# Altium integrated library WE-PD_rev15b.intlib: 278 symbols (part 2 of 3)
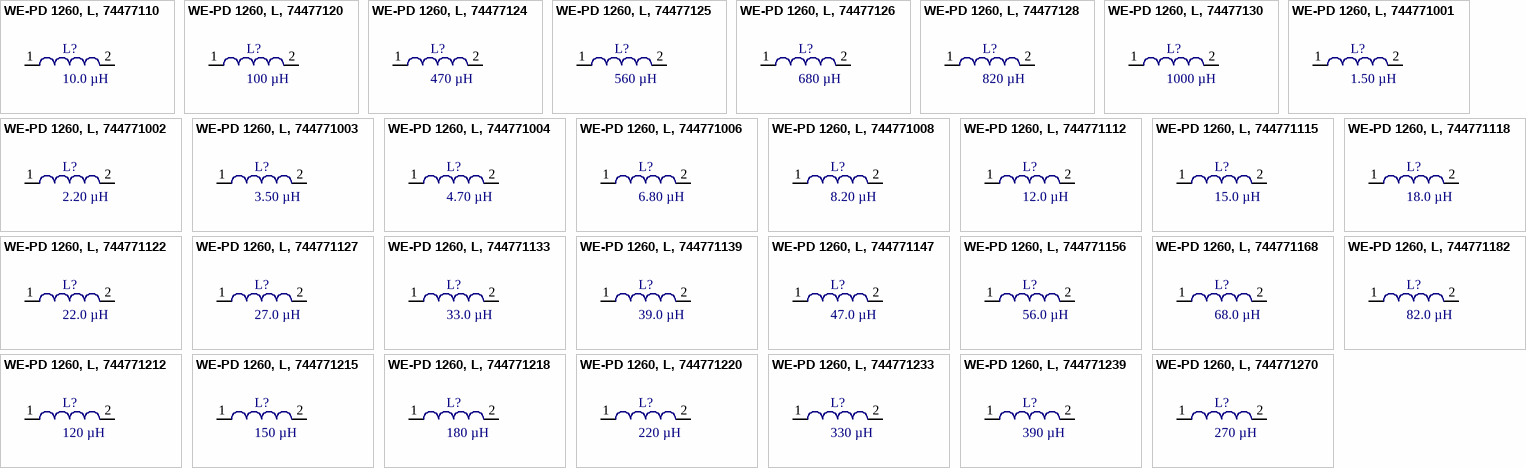
[diagram p12: symbols WE-PD 1260, L, 74477110 to WE-PD 1260, L, 744771270]

## WE-PD 1260, L, 744771127
designator L?, comment 27.0 µH
SMD-Shielded Power Inductor WE-PD, L=27.0 µH; partNo: 744771127; Manufacturer: Würth Elektronik eiSos GmbH; Inductance: 27.0 µH; ComponentLink1Description: Manufacturer; ComponentLink1URL: http://www.we-online.de; Created by: Christin Zierenner; Created Date: August 2009; ComponentLink2Description: Datasheet; ComponentLink2URL: http://www.we-online.de/katalog/media/pdf/744771127.pdf
footprint WE-PD 1260 (SMD Inductor, 2-Leads, Body 12,0x12,0mm)
pins: 1, 2

## WE-PD 1260, L, 744771133
designator L?, comment 33.0 µH
SMD-Shielded Power Inductor WE-PD, L=33.0 µH; partNo: 744771133; Manufacturer: Würth Elektronik eiSos GmbH; Inductance: 33.0 µH; ComponentLink1Description: Manufacturer; ComponentLink1URL: http://www.we-online.de; Created by: Christin Zierenner; Created Date: August 2009; ComponentLink2Description: Datasheet; ComponentLink2URL: http://www.we-online.de/katalog/media/pdf/744771133.pdf
footprint WE-PD 1260 (SMD Inductor, 2-Leads, Body 12,0x12,0mm)
pins: 1, 2

## WE-PD 1260, L, 744771139
designator L?, comment 39.0 µH
SMD-Shielded Power Inductor WE-PD, L=39.0 µH; partNo: 744771139; Manufacturer: Würth Elektronik eiSos GmbH; Inductance: 39.0 µH; ComponentLink1Description: Manufacturer; ComponentLink1URL: http://www.we-online.de; Created by: Christin Zierenner; Created Date: August 2009; ComponentLink2Description: Datasheet; ComponentLink2URL: http://www.we-online.de/katalog/media/pdf/744771139.pdf
footprint WE-PD 1260 (SMD Inductor, 2-Leads, Body 12,0x12,0mm)
pins: 1, 2

## WE-PD 1260, L, 744771147
designator L?, comment 47.0 µH
SMD-Shielded Power Inductor WE-PD, L=47.0 µH; partNo: 744771147; Manufacturer: Würth Elektronik eiSos GmbH; Inductance: 47.0 µH; ComponentLink1Description: Manufacturer; ComponentLink1URL: http://www.we-online.de; Created by: Christin Zierenner; Created Date: August 2009; ComponentLink2Description: Datasheet; ComponentLink2URL: http://www.we-online.de/katalog/media/pdf/744771147.pdf
footprint WE-PD 1260 (SMD Inductor, 2-Leads, Body 12,0x12,0mm)
pins: 1, 2

## WE-PD 1260, L, 744771156
designator L?, comment 56.0 µH
SMD-Shielded Power Inductor WE-PD, L=56.0 µH; partNo: 744771156; Manufacturer: Würth Elektronik eiSos GmbH; Inductance: 56.0 µH; ComponentLink1Description: Manufacturer; ComponentLink1URL: http://www.we-online.de; Created by: Christin Zierenner; Created Date: August 2009; ComponentLink2Description: Datasheet; ComponentLink2URL: http://www.we-online.de/katalog/media/pdf/744771156.pdf
footprint WE-PD 1260 (SMD Inductor, 2-Leads, Body 12,0x12,0mm)
pins: 1, 2

## WE-PD 1260, L, 744771168
designator L?, comment 68.0 µH
SMD-Shielded Power Inductor WE-PD, L=68.0 µH; partNo: 744771168; Manufacturer: Würth Elektronik eiSos GmbH; Inductance: 68.0 µH; ComponentLink1Description: Manufacturer; ComponentLink1URL: http://www.we-online.de; Created by: Christin Zierenner; Created Date: August 2009; ComponentLink2Description: Datasheet; ComponentLink2URL: http://www.we-online.de/katalog/media/pdf/744771168.pdf
footprint WE-PD 1260 (SMD Inductor, 2-Leads, Body 12,0x12,0mm)
pins: 1, 2

## WE-PD 1260, L, 744771182
designator L?, comment 82.0 µH
SMD-Shielded Power Inductor WE-PD, L=82.0 µH; partNo: 744771182; Manufacturer: Würth Elektronik eiSos GmbH; Inductance: 82.0 µH; ComponentLink1Description: Manufacturer; ComponentLink1URL: http://www.we-online.de; Created by: Christin Zierenner; Created Date: August 2009; ComponentLink2Description: Datasheet; ComponentLink2URL: http://www.we-online.de/katalog/media/pdf/744771182.pdf
footprint WE-PD 1260 (SMD Inductor, 2-Leads, Body 12,0x12,0mm)
pins: 1, 2

## WE-PD 1260, L, 744771212
designator L?, comment 120 µH
SMD-Shielded Power Inductor WE-PD, L=120 µH; partNo: 744771212; Manufacturer: Würth Elektronik eiSos GmbH; Inductance: 120 µH; ComponentLink1Description: Manufacturer; ComponentLink1URL: http://www.we-online.de; Created by: Christin Zierenner; Created Date: August 2009; ComponentLink2Description: Datasheet; ComponentLink2URL: http://www.we-online.de/katalog/media/pdf/744771212.pdf
footprint WE-PD 1260 (SMD Inductor, 2-Leads, Body 12,0x12,0mm)
pins: 1, 2

## WE-PD 1260, L, 744771215
designator L?, comment 150 µH
SMD-Shielded Power Inductor WE-PD, L=150 µH; partNo: 744771215; Manufacturer: Würth Elektronik eiSos GmbH; Inductance: 150 µH; ComponentLink1Description: Manufacturer; ComponentLink1URL: http://www.we-online.de; Created by: Christin Zierenner; Created Date: August 2009; ComponentLink2Description: Datasheet; ComponentLink2URL: http://www.we-online.de/katalog/media/pdf/744771215.pdf
footprint WE-PD 1260 (SMD Inductor, 2-Leads, Body 12,0x12,0mm)
pins: 1, 2

## WE-PD 1260, L, 744771218
designator L?, comment 180 µH
SMD-Shielded Power Inductor WE-PD, L=1820 µH; partNo: 744771218; Manufacturer: Würth Elektronik eiSos GmbH; Inductance: 180 µH; ComponentLink1Description: Manufacturer; ComponentLink1URL: http://www.we-online.de; Created by: Christin Zierenner; Created Date: August 2009; ComponentLink2Description: Datasheet; ComponentLink2URL: http://www.we-online.de/katalog/media/pdf/744771218.pdf
footprint WE-PD 1260 (SMD Inductor, 2-Leads, Body 12,0x12,0mm)
pins: 1, 2

## WE-PD 1260, L, 744771220
designator L?, comment 220 µH
SMD-Shielded Power Inductor WE-PD, L=220 µH; partNo: 744771220; Manufacturer: Würth Elektronik eiSos GmbH; Inductance: 220 µH; ComponentLink1Description: Manufacturer; ComponentLink1URL: http://www.we-online.de; Created by: Christin Zierenner; Created Date: August 2009; ComponentLink2Description: Datasheet; ComponentLink2URL: http://www.we-online.de/katalog/media/pdf/744771220.pdf
footprint WE-PD 1260 (SMD Inductor, 2-Leads, Body 12,0x12,0mm)
pins: 1, 2

## WE-PD 1260, L, 744771233
designator L?, comment 330 µH
SMD-Shielded Power Inductor WE-PD, L=330 µH; partNo: 744771233; Manufacturer: Würth Elektronik eiSos GmbH; Inductance: 330 µH; ComponentLink1Description: Manufacturer; ComponentLink1URL: http://www.we-online.de; Created by: Christin Zierenner; Created Date: August 2009; ComponentLink2Description: Datasheet; ComponentLink2URL: http://www.we-online.de/katalog/media/pdf/744771233.pdf
footprint WE-PD 1260 (SMD Inductor, 2-Leads, Body 12,0x12,0mm)
pins: 1, 2

## WE-PD 1260, L, 744771239
designator L?, comment 390 µH
SMD-Shielded Power Inductor WE-PD, L=390 µH; partNo: 744771239; Manufacturer: Würth Elektronik eiSos GmbH; Inductance: 390 µH; ComponentLink1Description: Manufacturer; ComponentLink1URL: http://www.we-online.de; Created by: Christin Zierenner; Created Date: August 2009; ComponentLink2Description: Datasheet; ComponentLink2URL: http://www.we-online.de/katalog/media/pdf/744771239.pdf
footprint WE-PD 1260 (SMD Inductor, 2-Leads, Body 12,0x12,0mm)
pins: 1, 2

## WE-PD 1260, L, 744771270
designator L?, comment 270 µH
SMD-Shielded Power Inductor WE-PD, L=270 µH; partNo: 744771270; Manufacturer: Würth Elektronik eiSos GmbH; Inductance: 270 µH; ComponentLink1Description: Manufacturer; ComponentLink1URL: http://www.we-online.de; Created by: Christin Zierenner; Created Date: August 2009; ComponentLink2Description: Datasheet; ComponentLink2URL: http://www.we-online.de/katalog/media/pdf/744771270.pdf
footprint WE-PD 1260 (SMD Inductor, 2-Leads, Body 12,0x12,0mm)
pins: 1, 2


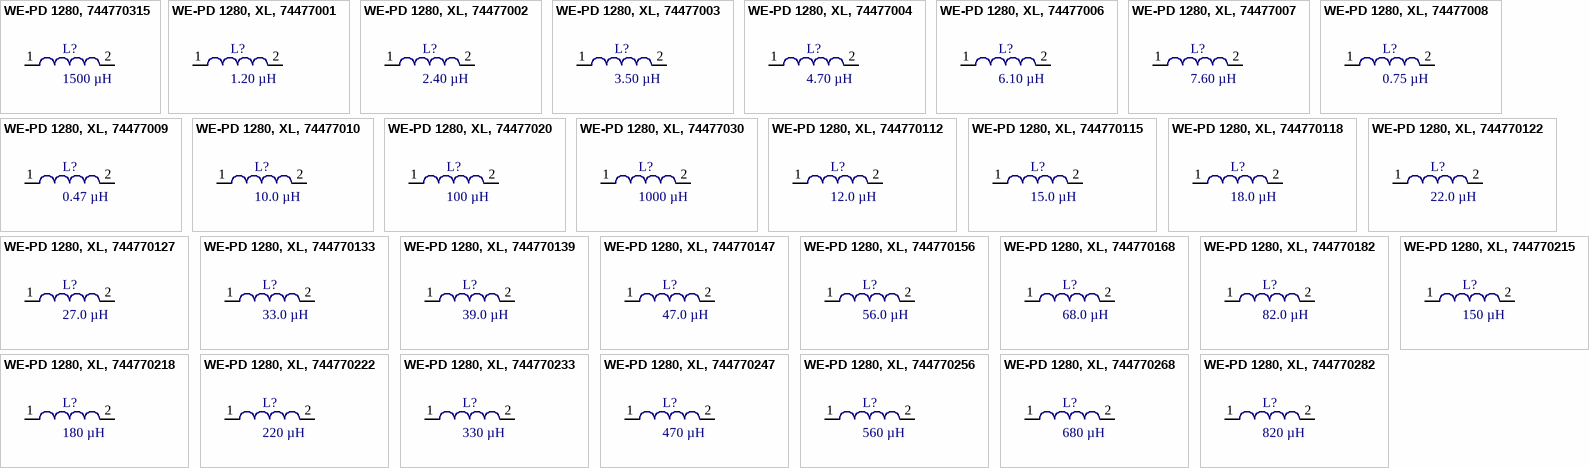
[diagram p5: symbols WE-PD 1280, 744770315 to WE-PD 1280, XL, 744770282]

## WE-PD 1280, 744770315
designator L?, comment 1500 µH
SMD-Shielded Power Inductor WE-PD, L=1500 µH; partNo: 744770315; Manufacturer: Würth Elektronik eiSos GmbH; Inductance: 1500 µH; ComponentLink1Description: Manufacturer; ComponentLink1URL: http://www.we-online.de; Created by: Christin Otto; Created Date: August 2013; ComponentLink2Description: Datasheet; ComponentLink2URL: http://www.we-online.de/katalog/media/pdf/744770315.pdf
footprint WE-PD 1280 (SMD Inductor, 2-Leads, Body 12,0x12,0mm)
pins: 1, 2

## WE-PD 1280, XL, 74477001
designator L?, comment 1.20 µH
SMD-Shielded Power Inductor WE-PD, L=1.20 µH; partNo: 74477001; Manufacturer: Würth Elektronik eiSos GmbH; Inductance: 1.20 µH; ComponentLink1Description: Manufacturer; ComponentLink1URL: http://www.we-online.de; Created by: Christin Zierenner; Created Date: August 2009; ComponentLink2Description: Datasheet; ComponentLink2URL: http://www.we-online.de/katalog/media/pdf/74477001.pdf
footprint WE-PD 1280 (SMD Inductor, 2-Leads, Body 12,0x12,0mm)
pins: 1, 2

## WE-PD 1280, XL, 74477002
designator L?, comment 2.40 µH
SMD-Shielded Power Inductor WE-PD, L=2.40 µH; partNo: 74477002; Manufacturer: Würth Elektronik eiSos GmbH; Inductance: 2.40 µH; ComponentLink1Description: Manufacturer; ComponentLink1URL: http://www.we-online.de; Created by: Christin Zierenner; Created Date: August 2009; ComponentLink2Description: Datasheet; ComponentLink2URL: http://www.we-online.de/katalog/media/pdf/74477002.pdf
footprint WE-PD 1280 (SMD Inductor, 2-Leads, Body 12,0x12,0mm)
pins: 1, 2

## WE-PD 1280, XL, 74477003
designator L?, comment 3.50 µH
SMD-Shielded Power Inductor WE-PD, L=3.50 µH; partNo: 74477003; Manufacturer: Würth Elektronik eiSos GmbH; Inductance: 3.50 µH; ComponentLink1Description: Manufacturer; ComponentLink1URL: http://www.we-online.de; Created by: Christin Zierenner; Created Date: August 2009; ComponentLink2Description: Datasheet; ComponentLink2URL: http://www.we-online.de/katalog/media/pdf/74477003.pdf
footprint WE-PD 1280 (SMD Inductor, 2-Leads, Body 12,0x12,0mm)
pins: 1, 2

## WE-PD 1280, XL, 74477004
designator L?, comment 4.70 µH
SMD-Shielded Power Inductor WE-PD, L=4.70 µH; partNo: 74477004; Manufacturer: Würth Elektronik eiSos GmbH; Inductance: 4.70 µH; ComponentLink1Description: Manufacturer; ComponentLink1URL: http://www.we-online.de; Created by: Christin Zierenner; Created Date: August 2009; ComponentLink2Description: Datasheet; ComponentLink2URL: http://www.we-online.de/katalog/media/pdf/74477004.pdf
footprint WE-PD 1280 (SMD Inductor, 2-Leads, Body 12,0x12,0mm)
pins: 1, 2

## WE-PD 1280, XL, 74477006
designator L?, comment 6.10 µH
SMD-Shielded Power Inductor WE-PD, L=6.10 µH; partNo: 74477006; Manufacturer: Würth Elektronik eiSos GmbH; Inductance: 6.10 µH; ComponentLink1Description: Manufacturer; ComponentLink1URL: http://www.we-online.de; Created by: Christin Zierenner; Created Date: August 2009; ComponentLink2Description: Datasheet; ComponentLink2URL: http://www.we-online.de/katalog/media/pdf/74477006.pdf
footprint WE-PD 1280 (SMD Inductor, 2-Leads, Body 12,0x12,0mm)
pins: 1, 2

## WE-PD 1280, XL, 74477007
designator L?, comment 7.60 µH
SMD-Shielded Power Inductor WE-PD, L=7.60 µH; partNo: 74477007; Manufacturer: Würth Elektronik eiSos GmbH; Inductance: 7.60 µH; ComponentLink1Description: Manufacturer; ComponentLink1URL: http://www.we-online.de; Created by: Christin Zierenner; Created Date: August 2009; ComponentLink2Description: Datasheet; ComponentLink2URL: http://www.we-online.de/katalog/media/pdf/74477007.pdf
footprint WE-PD 1280 (SMD Inductor, 2-Leads, Body 12,0x12,0mm)
pins: 1, 2

## WE-PD 1280, XL, 74477008
designator L?, comment 0.75 µH
SMD-Shielded Power Inductor WE-PD, L=0.75 µH; partNo: 74477008; Manufacturer: Würth Elektronik eiSos GmbH; Inductance: 0.75 µH; ComponentLink1Description: Manufacturer; ComponentLink1URL: http://www.we-online.de; Created by: Christin Zierenner; Created Date: August 2009; ComponentLink2Description: Datasheet; ComponentLink2URL: http://www.we-online.de/katalog/media/pdf/74477008.pdf
footprint WE-PD 1280 (SMD Inductor, 2-Leads, Body 12,0x12,0mm)
pins: 1, 2

## WE-PD 1280, XL, 74477009
designator L?, comment 0.47 µH
SMD-Shielded Power Inductor WE-PD, L=0.47 µH; partNo: 74477009; Manufacturer: Würth Elektronik eiSos GmbH; Inductance: 0.47 µH; ComponentLink1Description: Manufacturer; ComponentLink1URL: http://www.we-online.de; Created by: Christin Zierenner; Created Date: August 2009; ComponentLink2Description: Datasheet; ComponentLink2URL: http://www.we-online.de/katalog/media/pdf/74477009.pdf
footprint WE-PD 1280 (SMD Inductor, 2-Leads, Body 12,0x12,0mm)
pins: 1, 2

## WE-PD 1280, XL, 74477010
designator L?, comment 10.0 µH
SMD-Shielded Power Inductor WE-PD, L=10.0 µH; partNo: 74477010; Manufacturer: Würth Elektronik eiSos GmbH; Inductance: 10.0 µH; ComponentLink1Description: Manufacturer; ComponentLink1URL: http://www.we-online.de; Created by: Christin Zierenner; Created Date: August 2009; ComponentLink2Description: Datasheet; ComponentLink2URL: http://www.we-online.de/katalog/media/pdf/74477010.pdf
footprint WE-PD 1280 (SMD Inductor, 2-Leads, Body 12,0x12,0mm)
pins: 1, 2

## WE-PD 1280, XL, 74477020
designator L?, comment 100 µH
SMD-Shielded Power Inductor WE-PD, L=100 µH; partNo: 74477020; Manufacturer: Würth Elektronik eiSos GmbH; Inductance: 100 µH; ComponentLink1Description: Manufacturer; ComponentLink1URL: http://www.we-online.de; Created by: Christin Zierenner; Created Date: August 2009; ComponentLink2Description: Datasheet; ComponentLink2URL: http://www.we-online.de/katalog/media/pdf/74477020.pdf
footprint WE-PD 1280 (SMD Inductor, 2-Leads, Body 12,0x12,0mm)
pins: 1, 2

## WE-PD 1280, XL, 74477030
designator L?, comment 1000 µH
SMD-Shielded Power Inductor WE-PD, L=1000 µH; partNo: 74477030; Manufacturer: Würth Elektronik eiSos GmbH; Inductance: 1000 µH; ComponentLink1Description: Manufacturer; ComponentLink1URL: http://www.we-online.de; Created by: Christin Zierenner; Created Date: August 2009; ComponentLink2Description: Datasheet; ComponentLink2URL: http://www.we-online.de/katalog/media/pdf/74477030.pdf
footprint WE-PD 1280 (SMD Inductor, 2-Leads, Body 12,0x12,0mm)
pins: 1, 2

## WE-PD 1280, XL, 744770112
designator L?, comment 12.0 µH
SMD-Shielded Power Inductor WE-PD, L=12.0 µH; partNo: 744770112; Manufacturer: Würth Elektronik eiSos GmbH; Inductance: 12.0 µH; ComponentLink1Description: Manufacturer; ComponentLink1URL: http://www.we-online.de; Created by: Christin Zierenner; Created Date: August 2009; ComponentLink2Description: Datasheet; ComponentLink2URL: http://www.we-online.de/katalog/media/pdf/744770112.pdf
footprint WE-PD 1280 (SMD Inductor, 2-Leads, Body 12,0x12,0mm)
pins: 1, 2

## WE-PD 1280, XL, 744770115
designator L?, comment 15.0 µH
SMD-Shielded Power Inductor WE-PD, L=15.0 µH; partNo: 744770115; Manufacturer: Würth Elektronik eiSos GmbH; Inductance: 15.0 µH; ComponentLink1Description: Manufacturer; ComponentLink1URL: http://www.we-online.de; Created by: Christin Zierenner; Created Date: August 2009; ComponentLink2Description: Datasheet; ComponentLink2URL: http://www.we-online.de/katalog/media/pdf/744770115.pdf
footprint WE-PD 1280 (SMD Inductor, 2-Leads, Body 12,0x12,0mm)
pins: 1, 2

## WE-PD 1280, XL, 744770118
designator L?, comment 18.0 µH
SMD-Shielded Power Inductor WE-PD, L=18.0 µH; partNo: 744770118; Manufacturer: Würth Elektronik eiSos GmbH; Inductance: 18.0 µH; ComponentLink1Description: Manufacturer; ComponentLink1URL: http://www.we-online.de; Created by: Christin Zierenner; Created Date: August 2009; ComponentLink2Description: Datasheet; ComponentLink2URL: http://www.we-online.de/katalog/media/pdf/744770118.pdf
footprint WE-PD 1280 (SMD Inductor, 2-Leads, Body 12,0x12,0mm)
pins: 1, 2

## WE-PD 1280, XL, 744770122
designator L?, comment 22.0 µH
SMD-Shielded Power Inductor WE-PD, L=22.0 µH; partNo: 744770122; Manufacturer: Würth Elektronik eiSos GmbH; Inductance: 22.0 µH; ComponentLink1Description: Manufacturer; ComponentLink1URL: http://www.we-online.de; Created by: Christin Zierenner; Created Date: August 2009; ComponentLink2Description: Datasheet; ComponentLink2URL: http://www.we-online.de/katalog/media/pdf/744770122.pdf
footprint WE-PD 1280 (SMD Inductor, 2-Leads, Body 12,0x12,0mm)
pins: 1, 2

## WE-PD 1280, XL, 744770127
designator L?, comment 27.0 µH
SMD-Shielded Power Inductor WE-PD, L=27.0 µH; partNo: 744770127; Manufacturer: Würth Elektronik eiSos GmbH; Inductance: 27.0 µH; ComponentLink1Description: Manufacturer; ComponentLink1URL: http://www.we-online.de; Created by: Christin Zierenner; Created Date: August 2009; ComponentLink2Description: Datasheet; ComponentLink2URL: http://www.we-online.de/katalog/media/pdf/744770127.pdf
footprint WE-PD 1280 (SMD Inductor, 2-Leads, Body 12,0x12,0mm)
pins: 1, 2

## WE-PD 1280, XL, 744770133
designator L?, comment 33.0 µH
SMD-Shielded Power Inductor WE-PD, L=33.0 µH; partNo: 744770133; Manufacturer: Würth Elektronik eiSos GmbH; Inductance: 33.0 µH; ComponentLink1Description: Manufacturer; ComponentLink1URL: http://www.we-online.de; Created by: Christin Zierenner; Created Date: August 2009; ComponentLink2Description: Datasheet; ComponentLink2URL: http://www.we-online.de/katalog/media/pdf/744770133.pdf
footprint WE-PD 1280 (SMD Inductor, 2-Leads, Body 12,0x12,0mm)
pins: 1, 2

## WE-PD 1280, XL, 744770139
designator L?, comment 39.0 µH
SMD-Shielded Power Inductor WE-PD, L=39.0 µH; partNo: 744770139; Manufacturer: Würth Elektronik eiSos GmbH; Inductance: 39.0 µH; ComponentLink1Description: Manufacturer; ComponentLink1URL: http://www.we-online.de; Created by: Christin Zierenner; Created Date: August 2009; ComponentLink2Description: Datasheet; ComponentLink2URL: http://www.we-online.de/katalog/media/pdf/744770139.pdf
footprint WE-PD 1280 (SMD Inductor, 2-Leads, Body 12,0x12,0mm)
pins: 1, 2

## WE-PD 1280, XL, 744770147
designator L?, comment 47.0 µH
SMD-Shielded Power Inductor WE-PD, L=47.0 µH; partNo: 744770147; Manufacturer: Würth Elektronik eiSos GmbH; Inductance: 47.0 µH; ComponentLink1Description: Manufacturer; ComponentLink1URL: http://www.we-online.de; Created by: Christin Zierenner; Created Date: August 2009; ComponentLink2Description: Datasheet; ComponentLink2URL: http://www.we-online.de/katalog/media/pdf/744770147.pdf
footprint WE-PD 1280 (SMD Inductor, 2-Leads, Body 12,0x12,0mm)
pins: 1, 2

## WE-PD 1280, XL, 744770156
designator L?, comment 56.0 µH
SMD-Shielded Power Inductor WE-PD, L=56.0 µH; partNo: 744770156; Manufacturer: Würth Elektronik eiSos GmbH; Inductance: 56.0 µH; ComponentLink1Description: Manufacturer; ComponentLink1URL: http://www.we-online.de; Created by: Christin Zierenner; Created Date: August 2009; ComponentLink2Description: Datasheet; ComponentLink2URL: http://www.we-online.de/katalog/media/pdf/744770156.pdf
footprint WE-PD 1280 (SMD Inductor, 2-Leads, Body 12,0x12,0mm)
pins: 1, 2

## WE-PD 1280, XL, 744770168
designator L?, comment 68.0 µH
SMD-Shielded Power Inductor WE-PD, L=68.0 µH; partNo: 744770168; Manufacturer: Würth Elektronik eiSos GmbH; Inductance: 68.0 µH; ComponentLink1Description: Manufacturer; ComponentLink1URL: http://www.we-online.de; Created by: Christin Zierenner; Created Date: August 2009; ComponentLink2Description: Datasheet; ComponentLink2URL: http://www.we-online.de/katalog/media/pdf/744770168.pdf
footprint WE-PD 1280 (SMD Inductor, 2-Leads, Body 12,0x12,0mm)
pins: 1, 2

## WE-PD 1280, XL, 744770182
designator L?, comment 82.0 µH
SMD-Shielded Power Inductor WE-PD, L=82.0 µH; partNo: 744770182; Manufacturer: Würth Elektronik eiSos GmbH; Inductance: 82.0 µH; ComponentLink1Description: Manufacturer; ComponentLink1URL: http://www.we-online.de; Created by: Christin Zierenner; Created Date: August 2009; ComponentLink2Description: Datasheet; ComponentLink2URL: http://www.we-online.de/katalog/media/pdf/744770182.pdf
footprint WE-PD 1280 (SMD Inductor, 2-Leads, Body 12,0x12,0mm)
pins: 1, 2

## WE-PD 1280, XL, 744770215
designator L?, comment 150 µH
SMD-Shielded Power Inductor WE-PD, L=150 µH; partNo: 744770215; Manufacturer: Würth Elektronik eiSos GmbH; Inductance: 150 µH; ComponentLink1Description: Manufacturer; ComponentLink1URL: http://www.we-online.de; Created by: Christin Zierenner; Created Date: August 2009; ComponentLink2Description: Datasheet; ComponentLink2URL: http://www.we-online.de/katalog/media/pdf/744770215.pdf
footprint WE-PD 1280 (SMD Inductor, 2-Leads, Body 12,0x12,0mm)
pins: 1, 2

## WE-PD 1280, XL, 744770218
designator L?, comment 180 µH
SMD-Shielded Power Inductor WE-PD, L=180 µH; partNo: 744770218; Manufacturer: Würth Elektronik eiSos GmbH; Inductance: 180 µH; ComponentLink1Description: Manufacturer; ComponentLink1URL: http://www.we-online.de; Created by: Christin Zierenner; Created Date: August 2009; ComponentLink2Description: Datasheet; ComponentLink2URL: http://www.we-online.de/katalog/media/pdf/744770218.pdf
footprint WE-PD 1280 (SMD Inductor, 2-Leads, Body 12,0x12,0mm)
pins: 1, 2

## WE-PD 1280, XL, 744770222
designator L?, comment 220 µH
SMD-Shielded Power Inductor WE-PD, L=220 µH; partNo: 744770222; Manufacturer: Würth Elektronik eiSos GmbH; Inductance: 220 µH; ComponentLink1Description: Manufacturer; ComponentLink1URL: http://www.we-online.de; Created by: Christin Zierenner; Created Date: August 2009; ComponentLink2Description: Datasheet; ComponentLink2URL: http://www.we-online.de/katalog/media/pdf/744770222.pdf
footprint WE-PD 1280 (SMD Inductor, 2-Leads, Body 12,0x12,0mm)
pins: 1, 2

## WE-PD 1280, XL, 744770233
designator L?, comment 330 µH
SMD-Shielded Power Inductor WE-PD, L=330 µH; partNo: 744770233; Manufacturer: Würth Elektronik eiSos GmbH; Inductance: 330 µH; ComponentLink1Description: Manufacturer; ComponentLink1URL: http://www.we-online.de; Created by: Christin Zierenner; Created Date: August 2009; ComponentLink2Description: Datasheet; ComponentLink2URL: http://www.we-online.de/katalog/media/pdf/744770233.pdf
footprint WE-PD 1280 (SMD Inductor, 2-Leads, Body 12,0x12,0mm)
pins: 1, 2

## WE-PD 1280, XL, 744770247
designator L?, comment 470 µH
SMD-Shielded Power Inductor WE-PD, L=470 µH; partNo: 744770247; Manufacturer: Würth Elektronik eiSos GmbH; Inductance: 470 µH; ComponentLink1Description: Manufacturer; ComponentLink1URL: http://www.we-online.de; Created by: Christin Zierenner; Created Date: August 2009; ComponentLink2Description: Datasheet; ComponentLink2URL: http://www.we-online.de/katalog/media/pdf/744770247.pdf
footprint WE-PD 1280 (SMD Inductor, 2-Leads, Body 12,0x12,0mm)
pins: 1, 2

## WE-PD 1280, XL, 744770256
designator L?, comment 560 µH
SMD-Shielded Power Inductor WE-PD, L=560 µH; partNo: 744770256; Manufacturer: Würth Elektronik eiSos GmbH; Inductance: 560 µH; ComponentLink1Description: Manufacturer; ComponentLink1URL: http://www.we-online.de; Created by: Christin Zierenner; Created Date: August 2009; ComponentLink2Description: Datasheet; ComponentLink2URL: http://www.we-online.de/katalog/media/pdf/744770256.pdf
footprint WE-PD 1280 (SMD Inductor, 2-Leads, Body 12,0x12,0mm)
pins: 1, 2

## WE-PD 1280, XL, 744770268
designator L?, comment 680 µH
SMD-Shielded Power Inductor WE-PD, L=680 µH; partNo: 744770268; Manufacturer: Würth Elektronik eiSos GmbH; Inductance: 680 µH; ComponentLink1Description: Manufacturer; ComponentLink1URL: http://www.we-online.de; Created by: Christin Zierenner; Created Date: August 2009; ComponentLink2Description: Datasheet; ComponentLink2URL: http://www.we-online.de/katalog/media/pdf/744770268.pdf
footprint WE-PD 1280 (SMD Inductor, 2-Leads, Body 12,0x12,0mm)
pins: 1, 2

## WE-PD 1280, XL, 744770282
designator L?, comment 820 µH
SMD-Shielded Power Inductor WE-PD, L=820 µH; partNo: 744770282; Manufacturer: Würth Elektronik eiSos GmbH; Inductance: 820 µH; ComponentLink1Description: Manufacturer; ComponentLink1URL: http://www.we-online.de; Created by: Christin Zierenner; Created Date: August 2009; ComponentLink2Description: Datasheet; ComponentLink2URL: http://www.we-online.de/katalog/media/pdf/744770282.pdf
footprint WE-PD 1280 (SMD Inductor, 2-Leads, Body 12,0x12,0mm)
pins: 1, 2


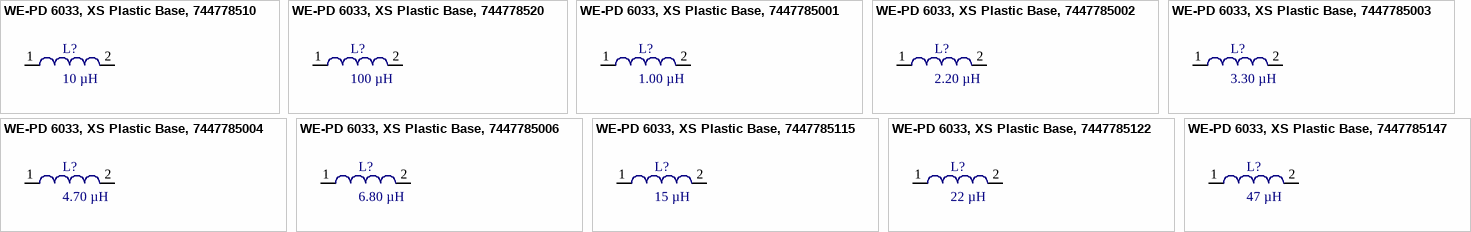
[diagram p6: symbols WE-PD 6033, XS Plastic Base, 744778510 to WE-PD 6033, XS Plastic Base, 7447785147]

## WE-PD 6033, XS Plastic Base, 744778510
designator L?, comment 10 µH
SMD-Shielded Power Inductor WE-PD, L=10 µH; partNo: 744778510; Manufacturer: Würth Elektronik eiSos GmbH; Inductance: 10 µH; ComponentLink1Description: Manufacturer; ComponentLink1URL: http://www.we-online.de; Created by: Christin Zierenner; Created Date: August 2009; ComponentLink2Description: Datasheet; ComponentLink2URL: http://www.we-online.de/katalog/media/pdf/744778510.pdf
footprint WE-PD 6033 Plastic Base (SMD Inductor, 2-Leads, Body 5,9x6,2mm)
pins: 1, 2

## WE-PD 6033, XS Plastic Base, 744778520
designator L?, comment 100 µH
SMD-Shielded Power Inductor WE-PD, L=100 µH; partNo: 744778520; Manufacturer: Würth Elektronik eiSos GmbH; Inductance: 100 µH; ComponentLink1Description: Manufacturer; ComponentLink1URL: http://www.we-online.de; Created by: Christin Zierenner; Created Date: August 2009; ComponentLink2Description: Datasheet; ComponentLink2URL: http://www.we-online.de/katalog/media/pdf/744778520.pdf
footprint WE-PD 6033 Plastic Base (SMD Inductor, 2-Leads, Body 5,9x6,2mm)
pins: 1, 2

## WE-PD 6033, XS Plastic Base, 7447785001
designator L?, comment 1.00 µH
SMD-Shielded Power Inductor WE-PD, L=1.00 µH; partNo: 7447785001; Manufacturer: Würth Elektronik eiSos GmbH; Inductance: 1.00 µH; ComponentLink1Description: Manufacturer; ComponentLink1URL: http://www.we-online.de; Created by: Christin Zierenner; Created Date: August 2009; ComponentLink2Description: Datasheet; ComponentLink2URL: http://www.we-online.de/katalog/media/pdf/7447785001.pdf
footprint WE-PD 6033 Plastic Base (SMD Inductor, 2-Leads, Body 5,9x6,2mm)
pins: 1, 2

## WE-PD 6033, XS Plastic Base, 7447785002
designator L?, comment 2.20 µH
SMD-Shielded Power Inductor WE-PD, L=2.20 µH; partNo: 7447785002; Manufacturer: Würth Elektronik eiSos GmbH; Inductance: 2.20 µH; ComponentLink1Description: Manufacturer; ComponentLink1URL: http://www.we-online.de; Created by: Christin Zierenner; Created Date: August 2009; ComponentLink2Description: Datasheet; ComponentLink2URL: http://www.we-online.de/katalog/media/pdf/7447785002.pdf
footprint WE-PD 6033 Plastic Base (SMD Inductor, 2-Leads, Body 5,9x6,2mm)
pins: 1, 2

## WE-PD 6033, XS Plastic Base, 7447785003
designator L?, comment 3.30 µH
SMD-Shielded Power Inductor WE-PD, L=3.30 µH; partNo: 7447785003; Manufacturer: Würth Elektronik eiSos GmbH; Inductance: 3.30 µH; ComponentLink1Description: Manufacturer; ComponentLink1URL: http://www.we-online.de; Created by: Christin Zierenner; Created Date: August 2009; ComponentLink2Description: Datasheet; ComponentLink2URL: http://www.we-online.de/katalog/media/pdf/7447785003.pdf
footprint WE-PD 6033 Plastic Base (SMD Inductor, 2-Leads, Body 5,9x6,2mm)
pins: 1, 2

## WE-PD 6033, XS Plastic Base, 7447785004
designator L?, comment 4.70 µH
SMD-Shielded Power Inductor WE-PD, L=4.70 µH; partNo: 7447785004; Manufacturer: Würth Elektronik eiSos GmbH; Inductance: 4.70 µH; ComponentLink1Description: Manufacturer; ComponentLink1URL: http://www.we-online.de; Created by: Christin Zierenner; Created Date: August 2009; ComponentLink2Description: Datasheet; ComponentLink2URL: http://www.we-online.de/katalog/media/pdf/7447785004.pdf
footprint WE-PD 6033 Plastic Base (SMD Inductor, 2-Leads, Body 5,9x6,2mm)
pins: 1, 2

## WE-PD 6033, XS Plastic Base, 7447785006
designator L?, comment 6.80 µH
SMD-Shielded Power Inductor WE-PD, L=6.80 µH; partNo: 7447785006; Manufacturer: Würth Elektronik eiSos GmbH; Inductance: 6.80 µH; ComponentLink1Description: Manufacturer; ComponentLink1URL: http://www.we-online.de; Created by: Christin Zierenner; Created Date: August 2009; ComponentLink2Description: Datasheet; ComponentLink2URL: http://www.we-online.de/katalog/media/pdf/7447785006.pdf
footprint WE-PD 6033 Plastic Base (SMD Inductor, 2-Leads, Body 5,9x6,2mm)
pins: 1, 2

## WE-PD 6033, XS Plastic Base, 7447785115
designator L?, comment 15 µH
SMD-Shielded Power Inductor WE-PD, L=15 µH; partNo: 7447785115; Manufacturer: Würth Elektronik eiSos GmbH; Inductance: 15 µH; ComponentLink1Description: Manufacturer; ComponentLink1URL: http://www.we-online.de; Created by: Christin Zierenner; Created Date: August 2009; ComponentLink2Description: Datasheet; ComponentLink2URL: http://www.we-online.de/katalog/media/pdf/7447785115.pdf
footprint WE-PD 6033 Plastic Base (SMD Inductor, 2-Leads, Body 5,9x6,2mm)
pins: 1, 2

## WE-PD 6033, XS Plastic Base, 7447785122
designator L?, comment 22 µH
SMD-Shielded Power Inductor WE-PD, L=22 µH; partNo: 7447785122; Manufacturer: Würth Elektronik eiSos GmbH; Inductance: 22 µH; ComponentLink1Description: Manufacturer; ComponentLink1URL: http://www.we-online.de; Created by: Christin Zierenner; Created Date: August 2009; ComponentLink2Description: Datasheet; ComponentLink2URL: http://www.we-online.de/katalog/media/pdf/7447785122.pdf
footprint WE-PD 6033 Plastic Base (SMD Inductor, 2-Leads, Body 5,9x6,2mm)
pins: 1, 2

## WE-PD 6033, XS Plastic Base, 7447785147
designator L?, comment 47 µH
SMD-Shielded Power Inductor WE-PD, L=47 µH; partNo: 7447785147; Manufacturer: Würth Elektronik eiSos GmbH; Inductance: 47 µH; ComponentLink1Description: Manufacturer; ComponentLink1URL: http://www.we-online.de; Created by: Christin Zierenner; Created Date: August 2009; ComponentLink2Description: Datasheet; ComponentLink2URL: http://www.we-online.de/katalog/media/pdf/7447785147.pdf
footprint WE-PD 6033 Plastic Base (SMD Inductor, 2-Leads, Body 5,9x6,2mm)
pins: 1, 2


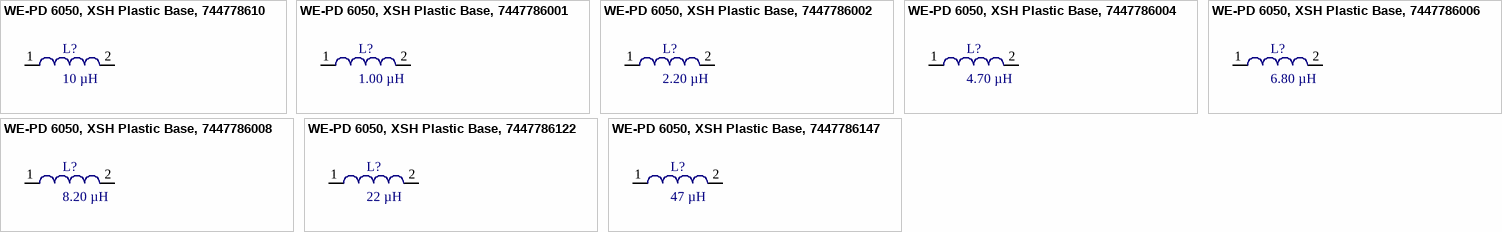
[diagram p7: symbols WE-PD 6050, XSH Plastic Base, 744778610 to WE-PD 6050, XSH Plastic Base, 7447786147]

## WE-PD 6050, XSH Plastic Base, 744778610
designator L?, comment 10 µH
SMD-Shielded Power Inductor WE-PD, L=10 µH; partNo: 744778610; Manufacturer: Würth Elektronik eiSos GmbH; Inductance: 10 µH; ComponentLink1Description: Manufacturer; ComponentLink1URL: http://www.we-online.de; Created by: Christin Zierenner; Created Date: August 2009; ComponentLink2Description: Datasheet; ComponentLink2URL: http://www.we-online.de/katalog/media/pdf/744778610.pdf
footprint WE-PD 6050 Plastic Base (SMD Inductor, 2-Leads, Body 5,9x6,2mm)
pins: 1, 2

## WE-PD 6050, XSH Plastic Base, 7447786001
designator L?, comment 1.00 µH
SMD-Shielded Power Inductor WE-PD, L=1.00 µH; partNo: 7447786001; Manufacturer: Würth Elektronik eiSos GmbH; Inductance: 1.00 µH; ComponentLink1Description: Manufacturer; ComponentLink1URL: http://www.we-online.de; Created by: Christin Zierenner; Created Date: August 2009; ComponentLink2Description: Datasheet; ComponentLink2URL: http://www.we-online.de/katalog/media/pdf/7447786001.pdf
footprint WE-PD 6050 Plastic Base (SMD Inductor, 2-Leads, Body 5,9x6,2mm)
pins: 1, 2

## WE-PD 6050, XSH Plastic Base, 7447786002
designator L?, comment 2.20 µH
SMD-Shielded Power Inductor WE-PD, L=2.20 µH; partNo: 7447786002; Manufacturer: Würth Elektronik eiSos GmbH; Inductance: 2.20 µH; ComponentLink1Description: Manufacturer; ComponentLink1URL: http://www.we-online.de; Created by: Christin Zierenner; Created Date: August 2009; ComponentLink2Description: Datasheet; ComponentLink2URL: http://www.we-online.de/katalog/media/pdf/7447786002.pdf
footprint WE-PD 6050 Plastic Base (SMD Inductor, 2-Leads, Body 5,9x6,2mm)
pins: 1, 2

## WE-PD 6050, XSH Plastic Base, 7447786004
designator L?, comment 4.70 µH
SMD-Shielded Power Inductor WE-PD, L=4.70 µH; partNo: 7447786004; Manufacturer: Würth Elektronik eiSos GmbH; Inductance: 4.70 µH; ComponentLink1Description: Manufacturer; ComponentLink1URL: http://www.we-online.de; Created by: Christin Zierenner; Created Date: August 2009; ComponentLink2Description: Datasheet; ComponentLink2URL: http://www.we-online.de/katalog/media/pdf/7447786004.pdf
footprint WE-PD 6050 Plastic Base (SMD Inductor, 2-Leads, Body 5,9x6,2mm)
pins: 1, 2

## WE-PD 6050, XSH Plastic Base, 7447786006
designator L?, comment 6.80 µH
SMD-Shielded Power Inductor WE-PD, L=6.80 µH; partNo: 7447786006; Manufacturer: Würth Elektronik eiSos GmbH; Inductance: 6.80 µH; ComponentLink1Description: Manufacturer; ComponentLink1URL: http://www.we-online.de; Created by: Christin Zierenner; Created Date: August 2009; ComponentLink2Description: Datasheet; ComponentLink2URL: http://www.we-online.de/katalog/media/pdf/7447786006.pdf
footprint WE-PD 6050 Plastic Base (SMD Inductor, 2-Leads, Body 5,9x6,2mm)
pins: 1, 2

## WE-PD 6050, XSH Plastic Base, 7447786008
designator L?, comment 8.20 µH
SMD-Shielded Power Inductor WE-PD, L=8.20 µH; partNo: 7447786008; Manufacturer: Würth Elektronik eiSos GmbH; Inductance: 8.20 µH; ComponentLink1Description: Manufacturer; ComponentLink1URL: http://www.we-online.de; Created by: Christin Zierenner; Created Date: August 2009; ComponentLink2Description: Datasheet; ComponentLink2URL: http://www.we-online.de/katalog/media/pdf/7447786008.pdf
footprint WE-PD 6050 Plastic Base (SMD Inductor, 2-Leads, Body 5,9x6,2mm)
pins: 1, 2

## WE-PD 6050, XSH Plastic Base, 7447786122
designator L?, comment 22 µH
SMD-Shielded Power Inductor WE-PD, L=22 µH; partNo: 7447786122; Manufacturer: Würth Elektronik eiSos GmbH; Inductance: 22 µH; ComponentLink1Description: Manufacturer; ComponentLink1URL: http://www.we-online.de; Created by: Christin Zierenner; Created Date: August 2009; ComponentLink2Description: Datasheet; ComponentLink2URL: http://www.we-online.de/katalog/media/pdf/7447786122.pdf
footprint WE-PD 6050 Plastic Base (SMD Inductor, 2-Leads, Body 5,9x6,2mm)
pins: 1, 2

## WE-PD 6050, XSH Plastic Base, 7447786147
designator L?, comment 47 µH
SMD-Shielded Power Inductor WE-PD, L=47 µH; partNo: 7447786147; Manufacturer: Würth Elektronik eiSos GmbH; Inductance: 47 µH; ComponentLink1Description: Manufacturer; ComponentLink1URL: http://www.we-online.de; Created by: Christin Zierenner; Created Date: August 2009; ComponentLink2Description: Datasheet; ComponentLink2URL: http://www.we-online.de/katalog/media/pdf/7447786147.pdf
footprint WE-PD 6050 Plastic Base (SMD Inductor, 2-Leads, Body 5,9x6,2mm)
pins: 1, 2


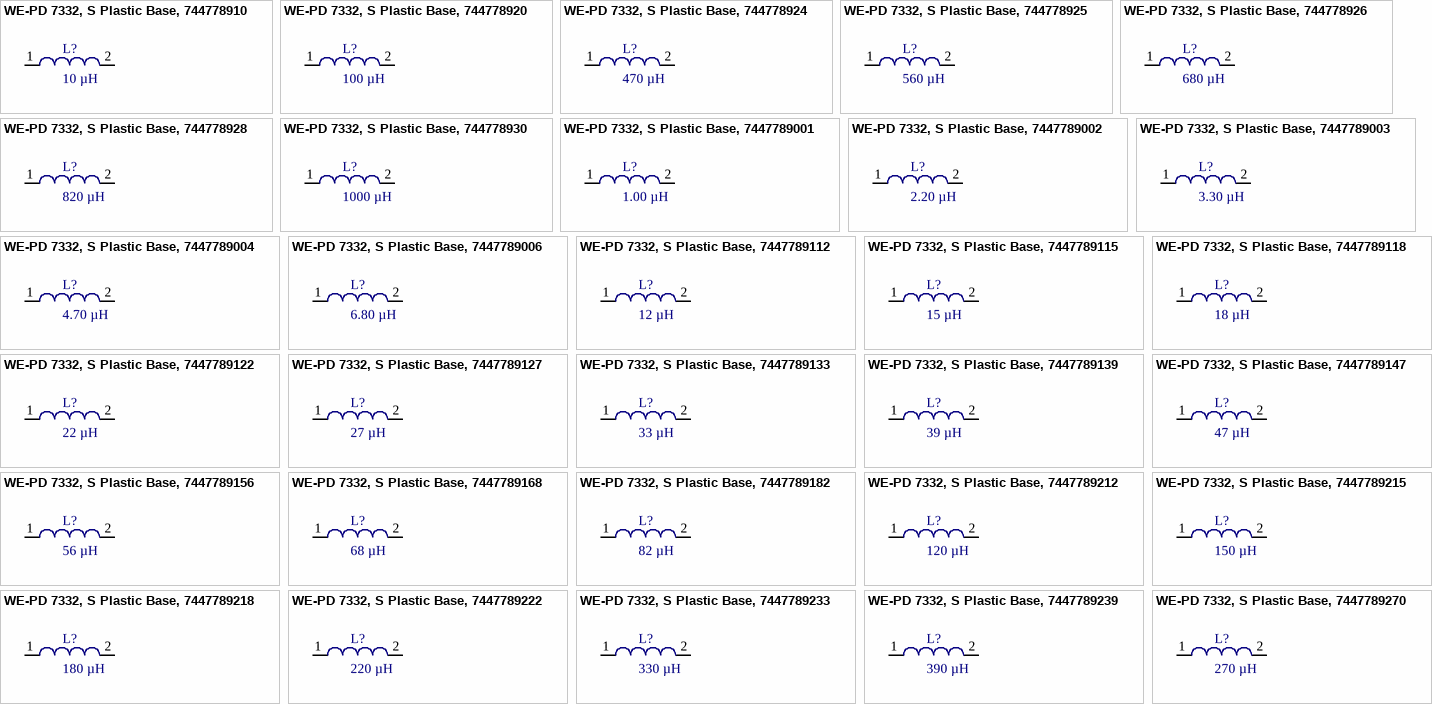
[diagram p8: symbols WE-PD 7332, S Plastic Base, 744778910 to WE-PD 7332, S Plastic Base, 7447789270]

## WE-PD 7332, S Plastic Base, 744778910
designator L?, comment 10 µH
SMD-Shielded Power Inductor WE-PD, L=10 µH; partNo: 744778910; Manufacturer: Würth Elektronik eiSos GmbH; Inductance: 10 µH; ComponentLink1Description: Manufacturer; ComponentLink1URL: http://www.we-online.de; Created by: Christin Zierenner; Created Date: August 2009; ComponentLink2Description: Datasheet; ComponentLink2URL: http://www.we-online.de/katalog/media/pdf/744778910.pdf
footprint WE-PD 7332 Plastic Base (SMD Inductor, 2-Leads, Body 7,3x7,3mm)
pins: 1, 2

## WE-PD 7332, S Plastic Base, 744778920
designator L?, comment 100 µH  (mechanical)
SMD-Shielded Power Inductor WE-PD, L=100 µH; partNo: 744778920; Manufacturer: Würth Elektronik eiSos GmbH; Inductance: 100 µH; ComponentLink1Description: Manufacturer; ComponentLink1URL: http://www.we-online.de; Created by: Christin Zierenner; Created Date: August 2009; ComponentLink2Description: Datasheet; ComponentLink2URL: http://www.we-online.de/katalog/media/pdf/744778920.pdf
footprint WE-PD 7332 Plastic Base (SMD Inductor, 2-Leads, Body 7,3x7,3mm)
pins: 1, 2

## WE-PD 7332, S Plastic Base, 744778924
designator L?, comment 470 µH  (mechanical)
SMD-Shielded Power Inductor WE-PD, L=470 µH; partNo: 744778924; Manufacturer: Würth Elektronik eiSos GmbH; Inductance: 470 µH; ComponentLink1Description: Manufacturer; ComponentLink1URL: http://www.we-online.de; Created by: Christin Zierenner; Created Date: August 2009; ComponentLink2Description: Datasheet; ComponentLink2URL: http://www.we-online.de/katalog/media/pdf/744778924.pdf
footprint WE-PD 7332 Plastic Base (SMD Inductor, 2-Leads, Body 7,3x7,3mm)
pins: 1, 2

## WE-PD 7332, S Plastic Base, 744778925
designator L?, comment 560 µH  (mechanical)
SMD-Shielded Power Inductor WE-PD, L=560 µH; partNo: 744778925; Manufacturer: Würth Elektronik eiSos GmbH; Inductance: 560 µH; ComponentLink1Description: Manufacturer; ComponentLink1URL: http://www.we-online.de; Created by: Christin Zierenner; Created Date: August 2009; ComponentLink2Description: Datasheet; ComponentLink2URL: http://www.we-online.de/katalog/media/pdf/744778925.pdf
footprint WE-PD 7332 Plastic Base (SMD Inductor, 2-Leads, Body 7,3x7,3mm)
pins: 1, 2

## WE-PD 7332, S Plastic Base, 744778926
designator L?, comment 680 µH  (mechanical)
SMD-Shielded Power Inductor WE-PD, L=680 µH; partNo: 744778926; Manufacturer: Würth Elektronik eiSos GmbH; Inductance: 680 µH; ComponentLink1Description: Manufacturer; ComponentLink1URL: http://www.we-online.de; Created by: Christin Zierenner; Created Date: August 2009; ComponentLink2Description: Datasheet; ComponentLink2URL: http://www.we-online.de/katalog/media/pdf/744778926.pdf
footprint WE-PD 7332 Plastic Base (SMD Inductor, 2-Leads, Body 7,3x7,3mm)
pins: 1, 2

## WE-PD 7332, S Plastic Base, 744778928
designator L?, comment 820 µH  (mechanical)
SMD-Shielded Power Inductor WE-PD, L=820 µH; partNo: 744778928; Manufacturer: Würth Elektronik eiSos GmbH; Inductance: 820 µH; ComponentLink1Description: Manufacturer; ComponentLink1URL: http://www.we-online.de; Created by: Christin Zierenner; Created Date: August 2009; ComponentLink2Description: Datasheet; ComponentLink2URL: http://www.we-online.de/katalog/media/pdf/744778928.pdf
footprint WE-PD 7332 Plastic Base (SMD Inductor, 2-Leads, Body 7,3x7,3mm)
pins: 1, 2

## WE-PD 7332, S Plastic Base, 744778930
designator L?, comment 1000 µH  (mechanical)
SMD-Shielded Power Inductor WE-PD, L=1000 µH; partNo: 744778930; Manufacturer: Würth Elektronik eiSos GmbH; Inductance: 1000 µH; ComponentLink1Description: Manufacturer; ComponentLink1URL: http://www.we-online.de; Created by: Christin Zierenner; Created Date: August 2009; ComponentLink2Description: Datasheet; ComponentLink2URL: http://www.we-online.de/katalog/media/pdf/744778930.pdf
footprint WE-PD 7332 Plastic Base (SMD Inductor, 2-Leads, Body 7,3x7,3mm)
pins: 1, 2

## WE-PD 7332, S Plastic Base, 7447789001
designator L?, comment 1.00 µH
SMD-Shielded Power Inductor WE-PD, L=1.00 µH; partNo: 7447789001; Manufacturer: Würth Elektronik eiSos GmbH; Inductance: 1.00 µH; ComponentLink1Description: Manufacturer; ComponentLink1URL: http://www.we-online.de; Created by: Christin Zierenner; Created Date: August 2009; ComponentLink2Description: Datasheet; ComponentLink2URL: http://www.we-online.de/katalog/media/pdf/7447789001.pdf
footprint WE-PD 7332 Plastic Base (SMD Inductor, 2-Leads, Body 7,3x7,3mm)
pins: 1, 2

## WE-PD 7332, S Plastic Base, 7447789002
designator L?, comment 2.20 µH
SMD-Shielded Power Inductor WE-PD, L=2.20 µH; partNo: 7447789002; Manufacturer: Würth Elektronik eiSos GmbH; Inductance: 2.20 µH; ComponentLink1Description: Manufacturer; ComponentLink1URL: http://www.we-online.de; Created by: Christin Zierenner; Created Date: August 2009; ComponentLink2Description: Datasheet; ComponentLink2URL: http://www.we-online.de/katalog/media/pdf/7447789002.pdf
footprint WE-PD 7332 Plastic Base (SMD Inductor, 2-Leads, Body 7,3x7,3mm)
pins: 1, 2

## WE-PD 7332, S Plastic Base, 7447789003
designator L?, comment 3.30 µH
SMD-Shielded Power Inductor WE-PD, L=3.30 µH; partNo: 7447789003; Manufacturer: Würth Elektronik eiSos GmbH; Inductance: 3.30 µH; ComponentLink1Description: Manufacturer; ComponentLink1URL: http://www.we-online.de; Created by: Christin Zierenner; Created Date: August 2009; ComponentLink2Description: Datasheet; ComponentLink2URL: http://www.we-online.de/katalog/media/pdf/7447789003.pdf
footprint WE-PD 7332 Plastic Base (SMD Inductor, 2-Leads, Body 7,3x7,3mm)
pins: 1, 2

## WE-PD 7332, S Plastic Base, 7447789004
designator L?, comment 4.70 µH
SMD-Shielded Power Inductor WE-PD, L=4.70 µH; partNo: 7447789004; Manufacturer: Würth Elektronik eiSos GmbH; Inductance: 4.70 µH; ComponentLink1Description: Manufacturer; ComponentLink1URL: http://www.we-online.de; Created by: Christin Zierenner; Created Date: August 2009; ComponentLink2Description: Datasheet; ComponentLink2URL: http://www.we-online.de/katalog/media/pdf/7447789004.pdf
footprint WE-PD 7332 Plastic Base (SMD Inductor, 2-Leads, Body 7,3x7,3mm)
pins: 1, 2

## WE-PD 7332, S Plastic Base, 7447789006
designator L?, comment 6.80 µH
SMD-Shielded Power Inductor WE-PD, L=6.80 µH; partNo: 7447789006; Manufacturer: Würth Elektronik eiSos GmbH; Inductance: 6.80 µH; ComponentLink1Description: Manufacturer; ComponentLink1URL: http://www.we-online.de; Created by: Christin Zierenner; Created Date: August 2009; ComponentLink2Description: Datasheet; ComponentLink2URL: http://www.we-online.de/katalog/media/pdf/7447789006.pdf
footprint WE-PD 7332 Plastic Base (SMD Inductor, 2-Leads, Body 7,3x7,3mm)
pins: 1, 2

## WE-PD 7332, S Plastic Base, 7447789112
designator L?, comment 12 µH
SMD-Shielded Power Inductor WE-PD, L=12 µH; partNo: 7447789112; Manufacturer: Würth Elektronik eiSos GmbH; Inductance: 12 µH; ComponentLink1Description: Manufacturer; ComponentLink1URL: http://www.we-online.de; Created by: Christin Zierenner; Created Date: August 2009; ComponentLink2Description: Datasheet; ComponentLink2URL: http://www.we-online.de/katalog/media/pdf/7447789112.pdf
footprint WE-PD 7332 Plastic Base (SMD Inductor, 2-Leads, Body 7,3x7,3mm)
pins: 1, 2

## WE-PD 7332, S Plastic Base, 7447789115
designator L?, comment 15 µH
SMD-Shielded Power Inductor WE-PD, L=15 µH; partNo: 7447789115; Manufacturer: Würth Elektronik eiSos GmbH; Inductance: 15 µH; ComponentLink1Description: Manufacturer; ComponentLink1URL: http://www.we-online.de; Created by: Christin Zierenner; Created Date: August 2009; ComponentLink2Description: Datasheet; ComponentLink2URL: http://www.we-online.de/katalog/media/pdf/7447789115.pdf
footprint WE-PD 7332 Plastic Base (SMD Inductor, 2-Leads, Body 7,3x7,3mm)
pins: 1, 2

## WE-PD 7332, S Plastic Base, 7447789118
designator L?, comment 18 µH
SMD-Shielded Power Inductor WE-PD, L=18 µH; partNo: 7447789118; Manufacturer: Würth Elektronik eiSos GmbH; Inductance: 18 µH; ComponentLink1Description: Manufacturer; ComponentLink1URL: http://www.we-online.de; Created by: Christin Zierenner; Created Date: August 2009; ComponentLink2Description: Datasheet; ComponentLink2URL: http://www.we-online.de/katalog/media/pdf/7447789118.pdf
footprint WE-PD 7332 Plastic Base (SMD Inductor, 2-Leads, Body 7,3x7,3mm)
pins: 1, 2

## WE-PD 7332, S Plastic Base, 7447789122
designator L?, comment 22 µH
SMD-Shielded Power Inductor WE-PD, L=22 µH; partNo: 7447789122; Manufacturer: Würth Elektronik eiSos GmbH; Inductance: 22 µH; ComponentLink1Description: Manufacturer; ComponentLink1URL: http://www.we-online.de; Created by: Christin Zierenner; Created Date: August 2009; ComponentLink2Description: Datasheet; ComponentLink2URL: http://www.we-online.de/katalog/media/pdf/7447789122.pdf
footprint WE-PD 7332 Plastic Base (SMD Inductor, 2-Leads, Body 7,3x7,3mm)
pins: 1, 2

## WE-PD 7332, S Plastic Base, 7447789127
designator L?, comment 27 µH
SMD-Shielded Power Inductor WE-PD, L=27 µH; partNo: 7447789127; Manufacturer: Würth Elektronik eiSos GmbH; Inductance: 27 µH; ComponentLink1Description: Manufacturer; ComponentLink1URL: http://www.we-online.de; Created by: Christin Zierenner; Created Date: August 2009; ComponentLink2Description: Datasheet; ComponentLink2URL: http://www.we-online.de/katalog/media/pdf/7447789127.pdf
footprint WE-PD 7332 Plastic Base (SMD Inductor, 2-Leads, Body 7,3x7,3mm)
pins: 1, 2

## WE-PD 7332, S Plastic Base, 7447789133
designator L?, comment 33 µH
SMD-Shielded Power Inductor WE-PD, L=33 µH; partNo: 7447789133; Manufacturer: Würth Elektronik eiSos GmbH; Inductance: 33 µH; ComponentLink1Description: Manufacturer; ComponentLink1URL: http://www.we-online.de; Created by: Christin Zierenner; Created Date: August 2009; ComponentLink2Description: Datasheet; ComponentLink2URL: http://www.we-online.de/katalog/media/pdf/7447789133.pdf
footprint WE-PD 7332 Plastic Base (SMD Inductor, 2-Leads, Body 7,3x7,3mm)
pins: 1, 2

## WE-PD 7332, S Plastic Base, 7447789139
designator L?, comment 39 µH
SMD-Shielded Power Inductor WE-PD, L=39 µH; partNo: 7447789139; Manufacturer: Würth Elektronik eiSos GmbH; Inductance: 39 µH; ComponentLink1Description: Manufacturer; ComponentLink1URL: http://www.we-online.de; Created by: Christin Zierenner; Created Date: August 2009; ComponentLink2Description: Datasheet; ComponentLink2URL: http://www.we-online.de/katalog/media/pdf/7447789139.pdf
footprint WE-PD 7332 Plastic Base (SMD Inductor, 2-Leads, Body 7,3x7,3mm)
pins: 1, 2

## WE-PD 7332, S Plastic Base, 7447789147
designator L?, comment 47 µH  (mechanical)
SMD-Shielded Power Inductor WE-PD, L=47 µH; partNo: 7447789147; Manufacturer: Würth Elektronik eiSos GmbH; Inductance: 47 µH; ComponentLink1Description: Manufacturer; ComponentLink1URL: http://www.we-online.de; Created by: Christin Zierenner; Created Date: August 2009; ComponentLink2Description: Datasheet; ComponentLink2URL: http://www.we-online.de/katalog/media/pdf/7447789147.pdf
footprint WE-PD 7332 Plastic Base (SMD Inductor, 2-Leads, Body 7,3x7,3mm)
pins: 1, 2

## WE-PD 7332, S Plastic Base, 7447789156
designator L?, comment 56 µH  (mechanical)
SMD-Shielded Power Inductor WE-PD, L=56 µH; partNo: 7447789156; Manufacturer: Würth Elektronik eiSos GmbH; Inductance: 56 µH; ComponentLink1Description: Manufacturer; ComponentLink1URL: http://www.we-online.de; Created by: Christin Zierenner; Created Date: August 2009; ComponentLink2Description: Datasheet; ComponentLink2URL: http://www.we-online.de/katalog/media/pdf/7447789156.pdf
footprint WE-PD 7332 Plastic Base (SMD Inductor, 2-Leads, Body 7,3x7,3mm)
pins: 1, 2

## WE-PD 7332, S Plastic Base, 7447789168
designator L?, comment 68 µH  (mechanical)
SMD-Shielded Power Inductor WE-PD, L=68 µH; partNo: 7447789168; Manufacturer: Würth Elektronik eiSos GmbH; Inductance: 68 µH; ComponentLink1Description: Manufacturer; ComponentLink1URL: http://www.we-online.de; Created by: Christin Zierenner; Created Date: August 2009; ComponentLink2Description: Datasheet; ComponentLink2URL: http://www.we-online.de/katalog/media/pdf/7447789168.pdf
footprint WE-PD 7332 Plastic Base (SMD Inductor, 2-Leads, Body 7,3x7,3mm)
pins: 1, 2

## WE-PD 7332, S Plastic Base, 7447789182
designator L?, comment 82 µH  (mechanical)
SMD-Shielded Power Inductor WE-PD, L=82 µH; partNo: 7447789182; Manufacturer: Würth Elektronik eiSos GmbH; Inductance: 82 µH; ComponentLink1Description: Manufacturer; ComponentLink1URL: http://www.we-online.de; Created by: Christin Zierenner; Created Date: August 2009; ComponentLink2Description: Datasheet; ComponentLink2URL: http://www.we-online.de/katalog/media/pdf/7447789182.pdf
footprint WE-PD 7332 Plastic Base (SMD Inductor, 2-Leads, Body 7,3x7,3mm)
pins: 1, 2

## WE-PD 7332, S Plastic Base, 7447789212
designator L?, comment 120 µH  (mechanical)
SMD-Shielded Power Inductor WE-PD, L=120 µH; partNo: 7447789212; Manufacturer: Würth Elektronik eiSos GmbH; Inductance: 120 µH; ComponentLink1Description: Manufacturer; ComponentLink1URL: http://www.we-online.de; Created by: Christin Zierenner; Created Date: August 2009; ComponentLink2Description: Datasheet; ComponentLink2URL: http://www.we-online.de/katalog/media/pdf/7447789212.pdf
footprint WE-PD 7332 Plastic Base (SMD Inductor, 2-Leads, Body 7,3x7,3mm)
pins: 1, 2

## WE-PD 7332, S Plastic Base, 7447789215
designator L?, comment 150 µH  (mechanical)
SMD-Shielded Power Inductor WE-PD, L=150 µH; partNo: 7447789215; Manufacturer: Würth Elektronik eiSos GmbH; Inductance: 150 µH; ComponentLink1Description: Manufacturer; ComponentLink1URL: http://www.we-online.de; Created by: Christin Zierenner; Created Date: August 2009; ComponentLink2Description: Datasheet; ComponentLink2URL: http://www.we-online.de/katalog/media/pdf/7447789215.pdf
footprint WE-PD 7332 Plastic Base (SMD Inductor, 2-Leads, Body 7,3x7,3mm)
pins: 1, 2

## WE-PD 7332, S Plastic Base, 7447789218
designator L?, comment 180 µH  (mechanical)
SMD-Shielded Power Inductor WE-PD, L=180 µH; partNo: 7447789218; Manufacturer: Würth Elektronik eiSos GmbH; Inductance: 180 µH; ComponentLink1Description: Manufacturer; ComponentLink1URL: http://www.we-online.de; Created by: Christin Zierenner; Created Date: August 2009; ComponentLink2Description: Datasheet; ComponentLink2URL: http://www.we-online.de/katalog/media/pdf/7447789218.pdf
footprint WE-PD 7332 Plastic Base (SMD Inductor, 2-Leads, Body 7,3x7,3mm)
pins: 1, 2

## WE-PD 7332, S Plastic Base, 7447789222
designator L?, comment 220 µH  (mechanical)
SMD-Shielded Power Inductor WE-PD, L=220 µH; partNo: 7447789222; Manufacturer: Würth Elektronik eiSos GmbH; Inductance: 220 µH; ComponentLink1Description: Manufacturer; ComponentLink1URL: http://www.we-online.de; Created by: Christin Zierenner; Created Date: August 2009; ComponentLink2Description: Datasheet; ComponentLink2URL: http://www.we-online.de/katalog/media/pdf/7447789222.pdf
footprint WE-PD 7332 Plastic Base (SMD Inductor, 2-Leads, Body 7,3x7,3mm)
pins: 1, 2

## WE-PD 7332, S Plastic Base, 7447789233
designator L?, comment 330 µH  (mechanical)
SMD-Shielded Power Inductor WE-PD, L=330 µH; partNo: 7447789233; Manufacturer: Würth Elektronik eiSos GmbH; Inductance: 330 µH; ComponentLink1Description: Manufacturer; ComponentLink1URL: http://www.we-online.de; Created by: Christin Zierenner; Created Date: August 2009; ComponentLink2Description: Datasheet; ComponentLink2URL: http://www.we-online.de/katalog/media/pdf/7447789233.pdf
footprint WE-PD 7332 Plastic Base (SMD Inductor, 2-Leads, Body 7,3x7,3mm)
pins: 1, 2

## WE-PD 7332, S Plastic Base, 7447789239
designator L?, comment 390 µH  (mechanical)
SMD-Shielded Power Inductor WE-PD, L=390 µH; partNo: 7447789239; Manufacturer: Würth Elektronik eiSos GmbH; Inductance: 390 µH; ComponentLink1Description: Manufacturer; ComponentLink1URL: http://www.we-online.de; Created by: Christin Zierenner; Created Date: August 2009; ComponentLink2Description: Datasheet; ComponentLink2URL: http://www.we-online.de/katalog/media/pdf/7447789239.pdf
footprint WE-PD 7332 Plastic Base (SMD Inductor, 2-Leads, Body 7,3x7,3mm)
pins: 1, 2